# EAGLE library part NTJD4001N (library Discrete)
On Semi onductors 30V, 250mA, Dual N-Channel MOSFET
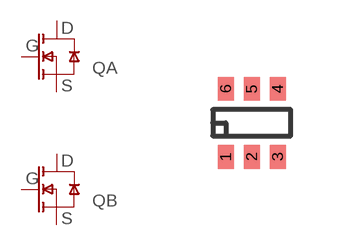
[diagram p13: symbol with the pads of SOT363; footprint SOT363]

Designator prefix Q; gates A=MOSFET-N B=MOSFET-N

## NTJD4001N  [SOT363]
1  A:S
2  A:G
3  B:D
4  B:S
5  B:G
6  A:D

## Footprint SOT363 (pad centres in mm)
On-Semi SC-88/SC-70-6/SOT3-63
smd 0.4 x 0.6: 1 -0.65,-0.85; 2 0,-0.85; 3 0.65,-0.85; 4 0.65,0.85; 5 0,0.85; 6 -0.65,0.85